# EAGLE library part LM25XX (library schematic)
LM2576 http://www.digikey.com/product-detail/en/LM2576D2TR4-5G/LM2576D2TR4-5GOSCT-ND/2120633
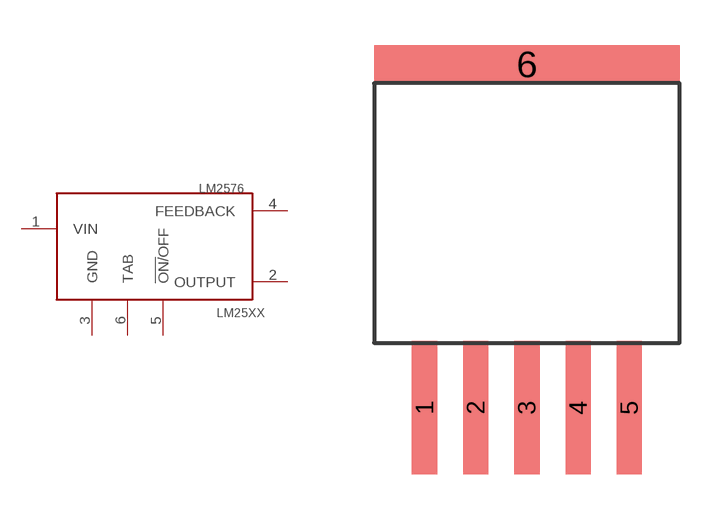
[diagram p0: symbol with the pads of TO-263-6(5LEADS+1TAB); footprint TO-263-6(5LEADS+1TAB)]

Designator prefix LM2576

## LM25XX-2576  [TO-263-6(5LEADS+1TAB)]
1  VIN
2  OUTPUT
3  GND
4  FEEDBACK
5  !ON/!OFF
6  TAB

## LM25XX-2596  [TO-263-6(5LEADS+1TAB)]
Pads as for TO-263-6(5LEADS+1TAB)

## Footprint TO-263-6(5LEADS+1TAB) (pad centres in mm)
smd 0.838 x 4.445: 1 -3.404,-5.715; 2 -1.702,-5.715; 3 0,-5.715; 4 1.702,-5.715; 5 3.404,-5.715
smd 10.16 x 1.27: 6 0,5.715